# Altium schematic symbol library 2N7002-7-F.Schlib: 1 symbol
Pins are listed as number, name and electrical type; pins without a type are passive.

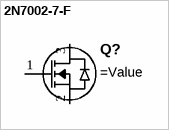
[diagram p0: symbol 2N7002-7-F]

## 2N7002-7-F
designator Q?
MOSFET N-CH 60V 115MA SOT23-3
pins: 1 G, 2 S, 3 D